# EAGLE library part 685119135725 (library InputOutputIO (rev18b))
WR-COM Angled SMT HDMI-19p + M3 flange =>Code : Con_I-O_COM_HDMI_685119135725 <http://katalog.we-online.de/media/images/eican/Con_I-O_COM_HDMI_685119135725_pf2.jpg> Details see: http://katalog.we-online.de/en/em/COM_SMT_HORIZONTAL_W_M3_SCREW/685119135725 Created 2014-07-09, Karrer Zheng 2014 (C) Würth Elektronik
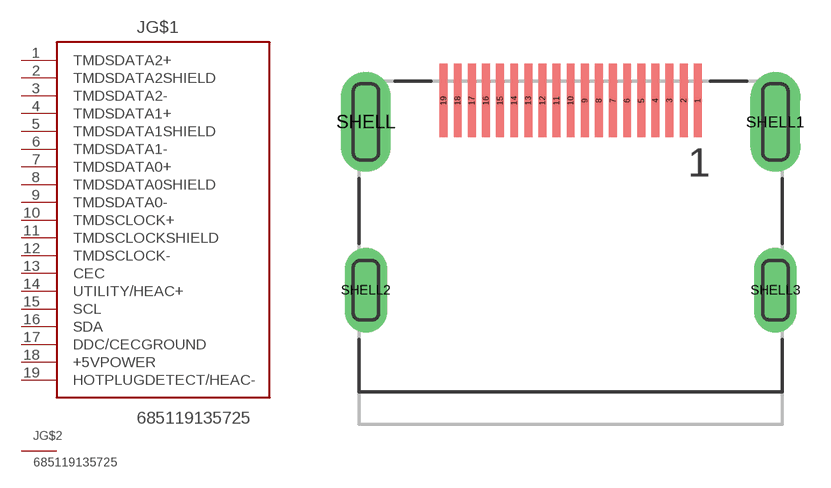
[diagram p140: symbol with the pads of 685119135725; footprint 685119135725]

Designator prefix J; gates G$1=HDMI_TYPA G$2=SHIELD

## 685119135725  [685119135725]
1  G$1:TMDSDATA2+
2  G$1:TMDSDATA2SHIELD
3  G$1:TMDSDATA2-
4  G$1:TMDSDATA1+
5  G$1:TMDSDATA1SHIELD
6  G$1:TMDSDATA1-
7  G$1:TMDSDATA0+
8  G$1:TMDSDATA0SHIELD
9  G$1:TMDSDATA0-
10  G$1:TMDSCLOCK+
11  G$1:TMDSCLOCKSHIELD
12  G$1:TMDSCLOCK-
13  G$1:CEC
14  G$1:UTILITY/HEAC+
15  G$1:SCL
16  G$1:SDA
17  G$1:DDC/CECGROUND
18  G$1:+5VPOWER
19  G$1:HOTPLUGDETECT/HEAC-
SHELL  G$2:SHIELD  pas
SHELL1  G$2:SHIELD  pas
SHELL2  G$2:SHIELD  pas
SHELL3  G$2:SHIELD  pas

## Footprint 685119135725 (pad centres in mm)
smd 0.28 x 2.6: 1 4.5,0.76; 2 4,0.76; 3 3.5,0.76; 4 3,0.76; 5 2.5,0.76; 6 2,0.76; 7 1.5,0.76; 8 1,0.76; 9 0.5,0.76; 10 0,0.76; 11 -0.5,0.76; 12 -1,0.76; 13 -1.5,0.76; 14 -2,0.76; 15 -2.5,0.76; 16 -3,0.76; 17 -3.5,0.76; 18 -4,0.76; 19 -4.5,0.76
drill 0.9 pad 1.778 long: SHELL -7.25,0; SHELL1 7.25,0
drill 0.9 pad 1.5 long: SHELL2 -7.25,-5.96; SHELL3 7.25,-5.96